# Altium footprint library Companders.PcbLib: 1 footprints
Each footprint in its own frame and in the unit in brackets; x right, y up, seen from the top. Pads: shape width x height; smd on the part's side, far side on the other; paste and mask are expansions set on the pad; w line width, h text height; cw(c..) or ccw(c..) is an arc to the next point about the centre after c.
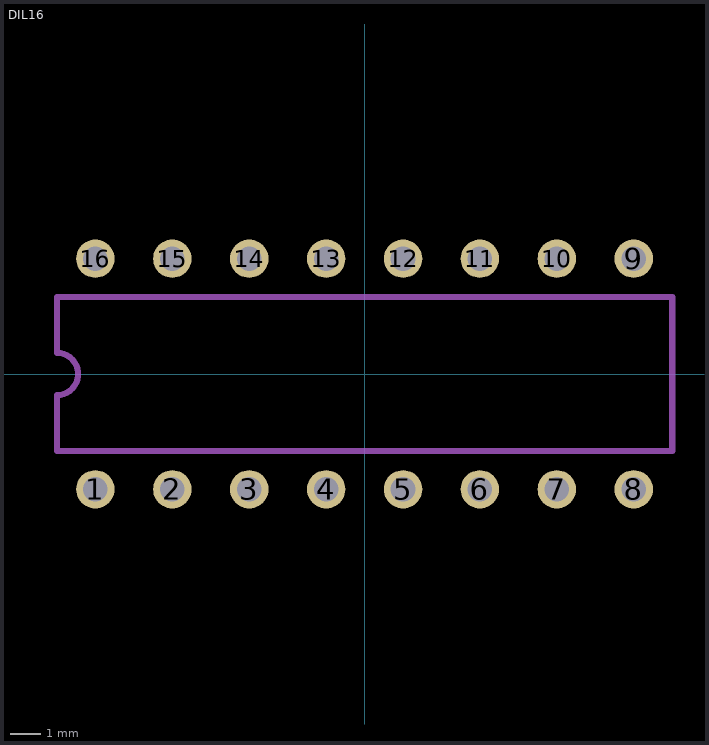
[diagram p0: the footprint, top view; thin cyan lines are the x and y axes]

## DIL16 [mil]
pads (16):
  round 50 hole 32: 1(-350,-150) 2(-250,-150) 3(-150,-150) 4(-50,-150) 5(50,-150) 6(150,-150) 7(250,-150) 8(350,-150) 9(350,150) 10(250,150) 11(150,150) 12(50,150) 13(-50,150) 14(-150,150) 15(-250,150) 16(-350,150)
Mechanical 2:
  lines w8: -400,-100 400,-100 400,100 -400,100 -400,27.5 cw(c-400,0) -400,-27.5 -400,-100
3D body "DIP16.STEP": height 353.46, standoff 51.89, extent -381.89,-155 381.89,154.84
3D body "DIL16_SOCKET.STEP": height 180.39, standoff -115.28, extent -400,-200 400,200